# EAGLE library part HCNR20X (library optocoupler)
HEWLETT PACKARD OPTO COUPLER
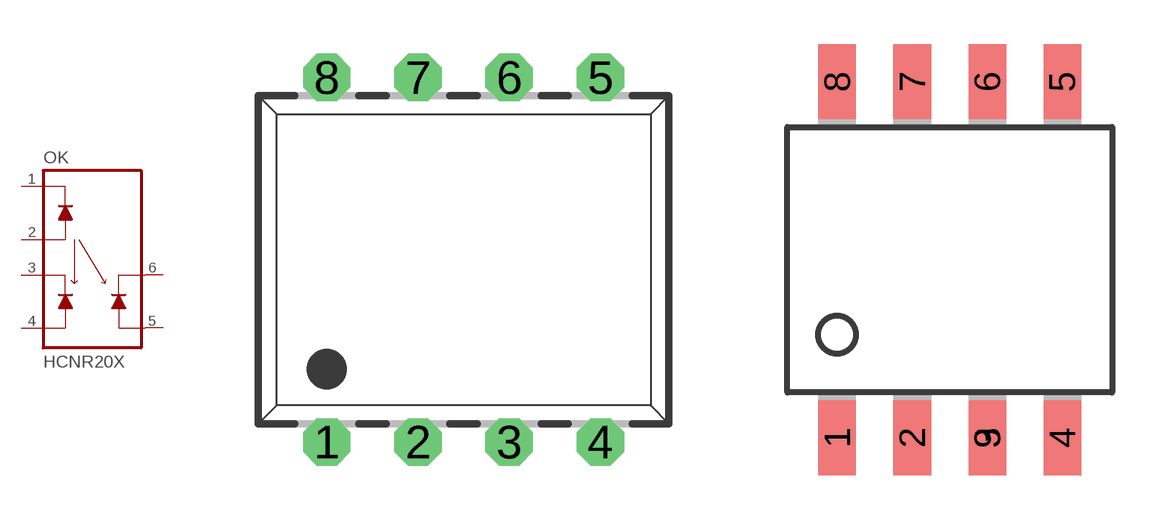
[diagram p39: symbol with the pads of DIL08HP4; footprints DIL08HP4, GW300]

Designator prefix OK

## HCNR20X  [DIL08HP4]
1  LED-C  pas
2  LED-A  pas
3  PD1-C  pas
4  PD1-A  pas
5  PD2-A  pas
6  PD2-C  pas

## HCNR20X-300  [GW300]
Pads as for DIL08HP4

## Footprint DIL08HP4 (pad centres in mm)
Dual In Line
drill 0.813 octagon: 1 -3.81,-5.08; 2 -1.27,-5.08; 3 1.27,-5.08; 4 3.81,-5.08; 5 3.81,5.08; 6 1.27,5.08; 7 -1.27,5.08; 8 -3.81,5.08

## Footprint GW300 (pad centres in mm)
HP Gull Wing #300 Surface Mount
smd 1.27 x 2.54: 1 -3.81,-6.032; 2 -1.27,-6.032; 3 1.27,-6.032; 4 3.81,-6.032; 5 3.81,6.032; 6 1.27,6.032; 7 -1.27,6.032; 8 -3.81,6.032; 9 1.27,-6.032